# EAGLE library part MEM2052-00-195-00-A (library MEM2052-00-195-00-A)
9 (8 + 1) Position Card Connector Secure Digital - microSD Surface Mount, Right Angle Gold Source: Datasheet <https://gct.co/files/drawings/MEM2052.pdf>
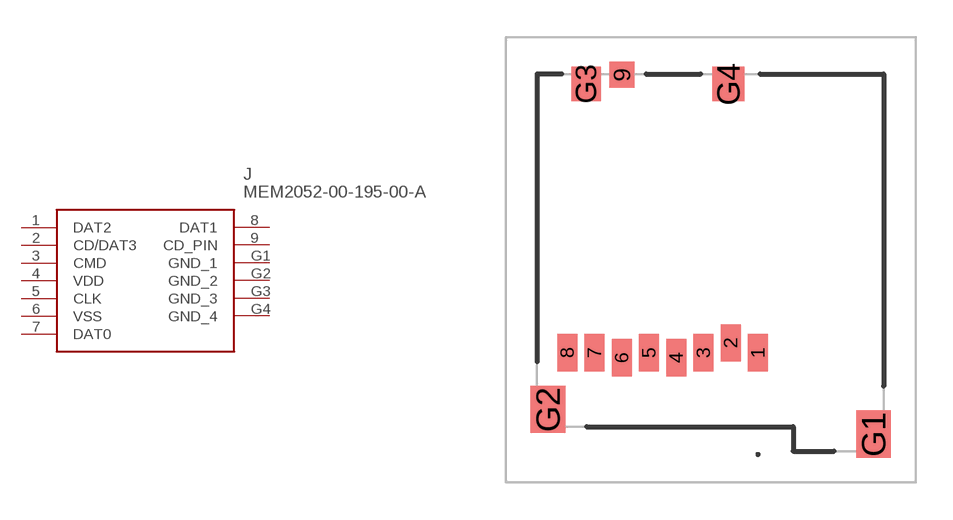
[diagram p0: symbol with the pads of MEM20520019500A; footprint MEM20520019500A]

Designator prefix J

## MEM2052-00-195-00-A (Description: 9 (8 + 1) Position Card Connector Secure Digital - microSD Surface Mount, Right Angle Gold; Height: 2.2mm; Manufacturer_Name: GCT (GLOBAL CONNECTOR TECHNOLOGY); Manufacturer_Part_Number: MEM2052-00-195-00-A; Mouser_Part_Number: 640-MEM20520019500A; Mouser_Price-Stock: https://www.mouser.co.uk/ProductDetail/GCT/MEM2052-00-195-00-A?qs=Jm2GQyTW%2Fbh7Ze6LKWKWwA%3D%3D)  [MEM20520019500A]
1  DAT2
2  CD/DAT3
3  CMD
4  VDD
5  CLK
6  VSS
7  DAT0
8  DAT1
9  CD_PIN
G1  GND_1
G2  GND_2
G3  GND_3
G4  GND_4

## Footprint MEM20520019500A (pad centres in mm)
MEM2052-00-195-00-A-51
smd 0.8 x 1.5: 1 1.905,-3.635; 2 0.805,-3.235; 3 -0.295,-3.635; 4 -1.395,-3.835; 5 -2.495,-3.635; 6 -3.595,-3.835; 7 -4.695,-3.635; 8 -5.795,-3.635
smd 1 x 1.04: 9 -3.585,7.595
smd 1.4 x 1.9: G1 6.575,-6.925; G2 -6.575,-5.925
smd 1.2 x 1.4: G3 -5.035,7.225
smd 1.3 x 1.4: G4 0.715,7.225